# Altium schematic symbol library RES_THD.SchLib: 9 symbols
Pins are listed as number, name and electrical type; pins without a type are passive.

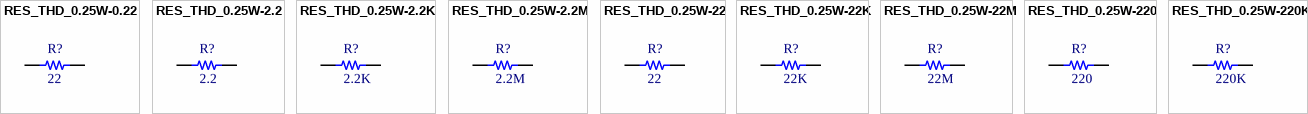
[diagram p0: symbols RES_THD_0.25W-0.22 to RES_THD_0.25W-220K]

## RES_THD_0.25W-0.22
designator R?, comment 22
RES_THD_0.25W-0.22
footprint RES_THD_AX14_0.25W-2.2 (RES_THD_AX14_ 0.25W - 2.2 - 8 mm)
pins: 1, 2

## RES_THD_0.25W-2.2
designator R?, comment 2.2
RES_THD_0.25W-2.2
footprint RES_THD_AX14_0.25W-2.2 (RES_THD_AX14_ 0.25W - 2.2 - 8 mm)
pins: 1, 2

## RES_THD_0.25W-2.2K
designator R?, comment 2.2K
RES_THD_0.25W-2.2K
footprint RES_THD_AX14_0.25W-2.2 (RES_THD_AX14_ 0.25W - 2.2 - 8 mm)
pins: 1, 2

## RES_THD_0.25W-2.2M
designator R?, comment 2.2M
RES_THD_0.25W-2.2M
footprint RES_THD_AX14_0.25W-2.2 (RES_THD_AX14_ 0.25W - 2.2 - 8 mm)
pins: 1, 2

## RES_THD_0.25W-22
designator R?, comment 22
RES_THD_0.25W-22
footprint RES_THD_AX14_0.25W-2.2 (RES_THD_AX14_ 0.25W - 2.2 - 8 mm)
pins: 1, 2

## RES_THD_0.25W-22K
designator R?, comment 22K
RES_THD_0.25W-22K
footprint RES_THD_AX14_0.25W-2.2 (RES_THD_AX14_ 0.25W - 2.2 - 8 mm)
pins: 1, 2

## RES_THD_0.25W-22M
designator R?, comment 22M
RES_THD_0.25W-22M
footprint RES_THD_AX14_0.25W-2.2 (RES_THD_AX14_ 0.25W - 2.2 - 8 mm)
pins: 1, 2

## RES_THD_0.25W-220
designator R?, comment 220
RES_THD_0.25W-220
footprint RES_THD_AX14_0.25W-2.2 (RES_THD_AX14_ 0.25W - 2.2 - 8 mm)
pins: 1, 2

## RES_THD_0.25W-220K
designator R?, comment 220K
RES_THD_0.25W-220K
footprint RES_THD_AX14_0.25W-2.2 (RES_THD_AX14_ 0.25W - 2.2 - 8 mm)
pins: 1, 2